# Altium schematic symbol library Mosfet.SchLib: 4 symbols
Pins are listed as number, name and electrical type; pins without a type are passive.

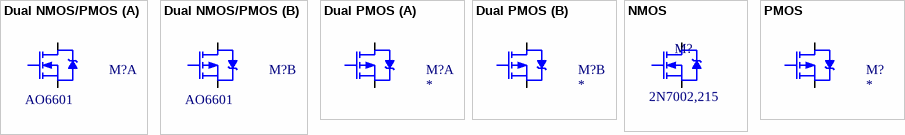
[diagram p0: symbols Dual NMOS/PMOS to PMOS]

## Dual NMOS/PMOS
designator M?  Part No.: AO6601  (hidden comment: *)
Dual N-Channel / P-Channel MOSFET; Manufacturer: Alpha & Omega; Vendor: Digi-Key; Price Est.: $0.61
footprint TSOP-6 (SSOT-6 TSOP6); pin to pad 2>6 3>5 4>3 5>4 6>2
part A pins: 1 G, 2 D, 3 S
part B pins: 4 G, 5 D, 6 S

## Dual PMOS
designator M?
Dual P-Channel Power MOSFET; Manufacturer: Vishay; Part No.: Si7945DP; Vendor: Mouser; Price Est.: $3.61
simulation model IRF9510 (Spice Subcircuit)
footprint PowerPAK SO-8 Dual (PowerPAK SO-8 Dual based on Vishay (http://www.vishay.com/docs/72286/an826.pdf))
part A pins: 1 G, 2 D, 3 S
part B pins: 4 G, 5 D, 6 S

## NMOS
designator M?  Part No.: 2N7002,215  (hidden comment: *)
Manufacturer: NXP; Price Est.: $0.09; Vendor: NXP
footprint SOT-23 (SOT-23; 3 Leads; Body 3.0 x 2.6 mm, inc. leads (LxW max)); pin to pad 2>3 3>2
footprint SO-8 FLAT LEAD (Footprint not found)
footprint PowerPAK SOIC Hybrid (PowerPAK SO-8 Single based on Vishay (http://www.vishay.com/docs/72286/an826.pdf))
pins: 1 G, 2 D, 3 S

## PMOS
designator M?
P-Channel Power MOSFET; Manufacturer: Vishay; Part No.: Si7129DN; Vendor: Mouser; Price Est.: $0.60
simulation model IRF9510 (Spice Subcircuit)
footprint PowerPAK 1212-8 Single (PowerPAK 1212-8 Single based on Vishay (http://www.vishay.com/docs/72286/an826.pdf))
footprint SOT-23 (SOT-23; 3 Leads; Body 3.0 x 2.6 mm, inc. leads (LxW max)); pin to pad 2>3 3>2
pins: 1 G, 2 D, 3 S